# EAGLE library part ICM-42605 (library Devices)
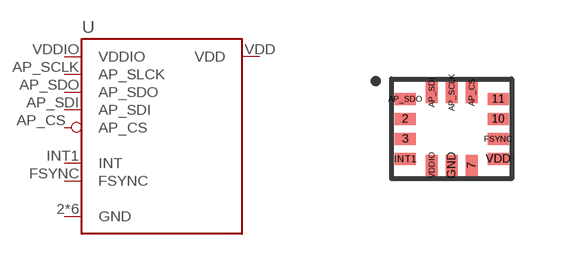
[diagram p0: symbol with the pads of ICM-42605; footprint ICM-42605]

Designator prefix U

## ICM-42605 (MPN: ICM-42605)  [ICM-42605]
2  GND  pwr
3  GND  pwr
7  GND  pwr
10  GND  pwr
11  GND  pwr
AP_CS  AP_CS
AP_SCLK  AP_SLCK
AP_SDI  AP_SDI
AP_SDO  AP_SDO
FSYNC  FSYNC
GND  GND  pwr
INT1  INT
VDD  VDD  pwr
VDDIO  VDDIO

## Footprint ICM-42605 (pad centres in mm)
Datasheet <https://3cfeqx1hf82y3xcoull08ihx-wpengine.netdna-ssl.com/wp-content/uploads/2020/09/DS-000292-ICM-42605-v1.5.pdf?ref_disty=digikey>
smd 0.525 x 0.3: 2 -1.163,0.25; 3 -1.163,-0.25; 10 1.163,0.25; 11 1.163,0.75; AP_SDO -1.163,0.75; FSYNC 1.163,-0.25; INT1 -1.163,-0.75; VDD 1.163,-0.75
smd 0.3 x 0.525: 7 0.5,-0.912; AP_CS 0.5,0.912; AP_SCLK 0,0.912; AP_SDI -0.5,0.912; GND 0,-0.912; VDDIO -0.5,-0.912